# Altium footprint library WiCAN_lib.PcbLib: 21 footprints (part 2 of 2)
Each footprint in its own frame and in the unit in brackets; x right, y up, seen from the top. Pads: shape width x height; smd on the part's side, far side on the other; paste and mask are expansions set on the pad; w line width, h text height; cw(c..) or ccw(c..) is an arc to the next point about the centre after c.
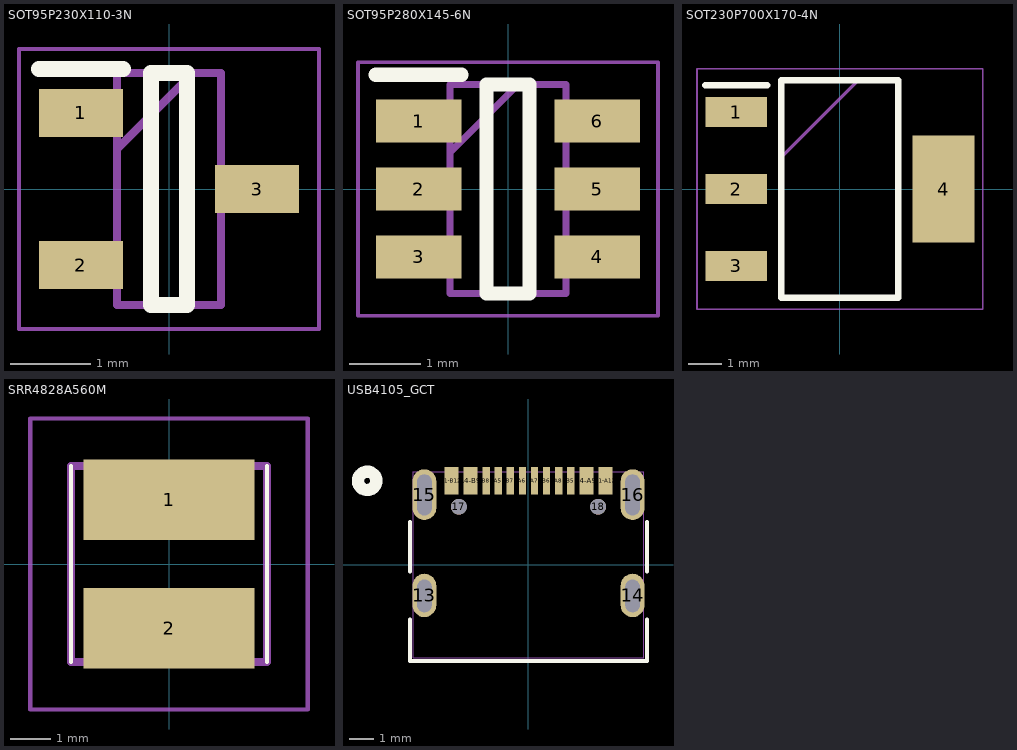
[diagram p1: the footprints below, top view; thin cyan lines are the x and y axes]

## SOT95P230X110-3N [mm]
pads (3):
  rect 1.05x0.6 smd: 1(-1.1,0.95) 2(-1.1,-0.95) 3(1.1,0)
Top Overlay:
  lines w0.2: -1.625,1.5 -0.575,1.5 ; -0.225,-1.45 -0.225,1.45 0.225,1.45 0.225,-1.45 -0.225,-1.45
Mechanical 13:
  lines w0.1: -0.65,0.5 0.3,1.45 ; -0.65,-1.45 -0.65,1.45 0.65,1.45 0.65,-1.45 -0.65,-1.45
Mechanical 15:
  lines w0.05: -1.875,-1.75 -1.875,1.75 1.875,1.75 1.875,-1.75 -1.875,-1.75
3D body "PESD2CANFD24U-TR.stp": height 0.95, standoff 0, extent -1.201,-1.448 1.199,1.452

## SOT95P280X145-6N [mm]
pads (6):
  rect 1.2x0.6 smd: 1(-1.25,0.95) 2(-1.25,0) 3(-1.25,-0.95) 4(1.25,-0.95) 5(1.25,0) 6(1.25,0.95)
Top Overlay:
  lines w0.2: -1.85,1.6 -0.65,1.6 ; -0.3,-1.462 0.3,-1.462 0.3,1.462 -0.3,1.462 -0.3,-1.462
Mechanical 13:
  lines w0.1: -0.812,0.512 0.138,1.462 ; -0.812,-1.462 0.812,-1.462 0.812,1.462 -0.812,1.462 -0.812,-1.462
Mechanical 15:
  lines w0.05: -2.1,-1.775 2.1,-1.775 2.1,1.775 -2.1,1.775 -2.1,-1.775
3D body "USBLC6-2SC6.stp": height 1.45, standoff 0, extent -1.4,-1.462 1.4,1.462

## SOT230P700X170-4N [mm]
pads (4):
  rect 1.85x0.9 smd: 1(-3.1,2.3) 2(-3.1,0) 3(-3.1,-2.3)
  rect 1.85x3.2 smd: 4(3.1,0)
Top Overlay:
  lines w0.2: -4.025,3.1 -2.175,3.1 ; -1.75,-3.25 -1.75,3.25 1.75,3.25 1.75,-3.25 -1.75,-3.25
Mechanical 13:
  lines w0.1: -1.75,0.95 0.55,3.25 ; -1.75,-3.25 -1.75,3.25 1.75,3.25 1.75,-3.25 -1.75,-3.25
Mechanical 15:
  lines w0.05: -4.275,-3.6 -4.275,3.6 4.275,3.6 4.275,-3.6 -4.275,-3.6
3D body "AZ1117IH-5.0TRG1.stp": height 1.7, standoff 0, extent -3.5,-3.25 3.5,3.25

## SRR4828A560M [mm]
pads (2):
  rect 4.2x1.98 smd: 1(0,1.575) 2(0,-1.575)
Top Overlay:
  lines w0.1: -2.4,-2.4 -2.4,2.4 ; 2.4,-2.4 2.4,2.4
Mechanical 13:
  lines w0.2: -2.4,-2.4 -2.4,2.4 2.4,2.4 2.4,-2.4 -2.4,-2.4
Mechanical 15:
  lines w0.1: -3.4,-3.565 -3.4,3.565 3.4,3.565 3.4,-3.565 -3.4,-3.565
3D body "SRR4828A-470M.stp": height 3.1, standoff 0, extent -2.4,-2.4 2.4,2.4

## USB4105_GCT [mil]
pads (22):
  oval 39x71 smd: 13(-170.08,-49.97) 14(170.08,-49.97)
  oval 39x83 smd: 15(-170.08,114.6) 16(170.08,114.6)
  round 26 hole 26 unplated: 17(-113.78,94.91) 18(113.78,94.91)
  rect 23x45 smd: A1-B12(-125.98,137.24) A4-B9(-94.49,137.24) B1-A12(125.98,137.24) B4-A9(94.49,137.24)
  rect 12x45 smd paste+0 mask+0: A5(-49.21,137.24) A6(-9.84,137.24) A7(9.84,137.24) A8(49.21,137.24) B5(68.9,137.24) B6(29.53,137.24) B7(-29.53,137.24) B8(-68.9,137.24)
  round 24 hole 24 slot 53.15 at 90 deg unplated: S_1_H1(-170.08,-50.79) S_2_H1(170.08,-50.79)
  round 24 hole 24 slot 66.93 at 90 deg unplated: S_3_H1(-170.08,114.17) S_4_H1(170.08,114.17)
Top Overlay:
  circle w20: c-263.5,137.24 r15
  lines w6: -193.5,-88.64 -193.5,-157 193.5,-157 193.5,-88.64 ; -193.5,-11.29 -193.5,69.92 ; 193.5,-11.29 193.5,69.92
Bottom Overlay:
  circle w20: c-263.5,137.24 r15
Mechanical 13:
  lines w1: -188.5,-152 188.5,-152 188.5,152 -188.5,152 -188.5,-152
3D body: height 10, standoff 0, extent 0,0 10,10
3D body "USB4105--3DModel-STEP-56544.STEP": height 130.31, standoff -33.46, extent -188.58,-152.36 188.58,151.18